# EAGLE library part MICROVIEW-16 (library GeekAmmo)
MicroView
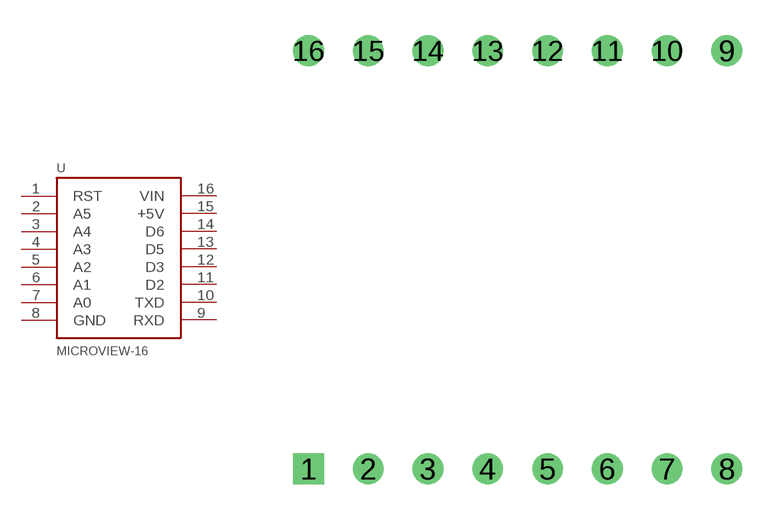
[diagram p11: symbol with the pads of MV-DIP16; footprint MV-DIP16]

Designator prefix -

## MICROVIEW-16  [MV-DIP16]
1  RST
2  A5
3  A4
4  A3
5  A2
6  A1
7  A0
8  GND
9  RXD
10  TXD
11  D2
12  D3
13  D5
14  D6
15  +5V
16  VIN

## Footprint MV-DIP16 (pad centres in mm)
MicroView 16 Pin Pacakge
drill 0.8 square: 1 0,0
drill 0.8 round: 2 2.54,0; 3 5.08,0; 4 7.62,0; 5 10.16,0; 6 12.7,0; 7 15.24,0; 8 17.78,0; 9 17.78,17.78; 10 15.24,17.78; 11 12.7,17.78; 12 10.16,17.78; 13 7.62,17.78; 14 5.08,17.78; 15 2.54,17.78; 16 0,17.78